# Altium schematic symbol library WREL_AD10.SchLib: 31 symbols
Pins are listed as number, name and electrical type; pins without a type are passive.

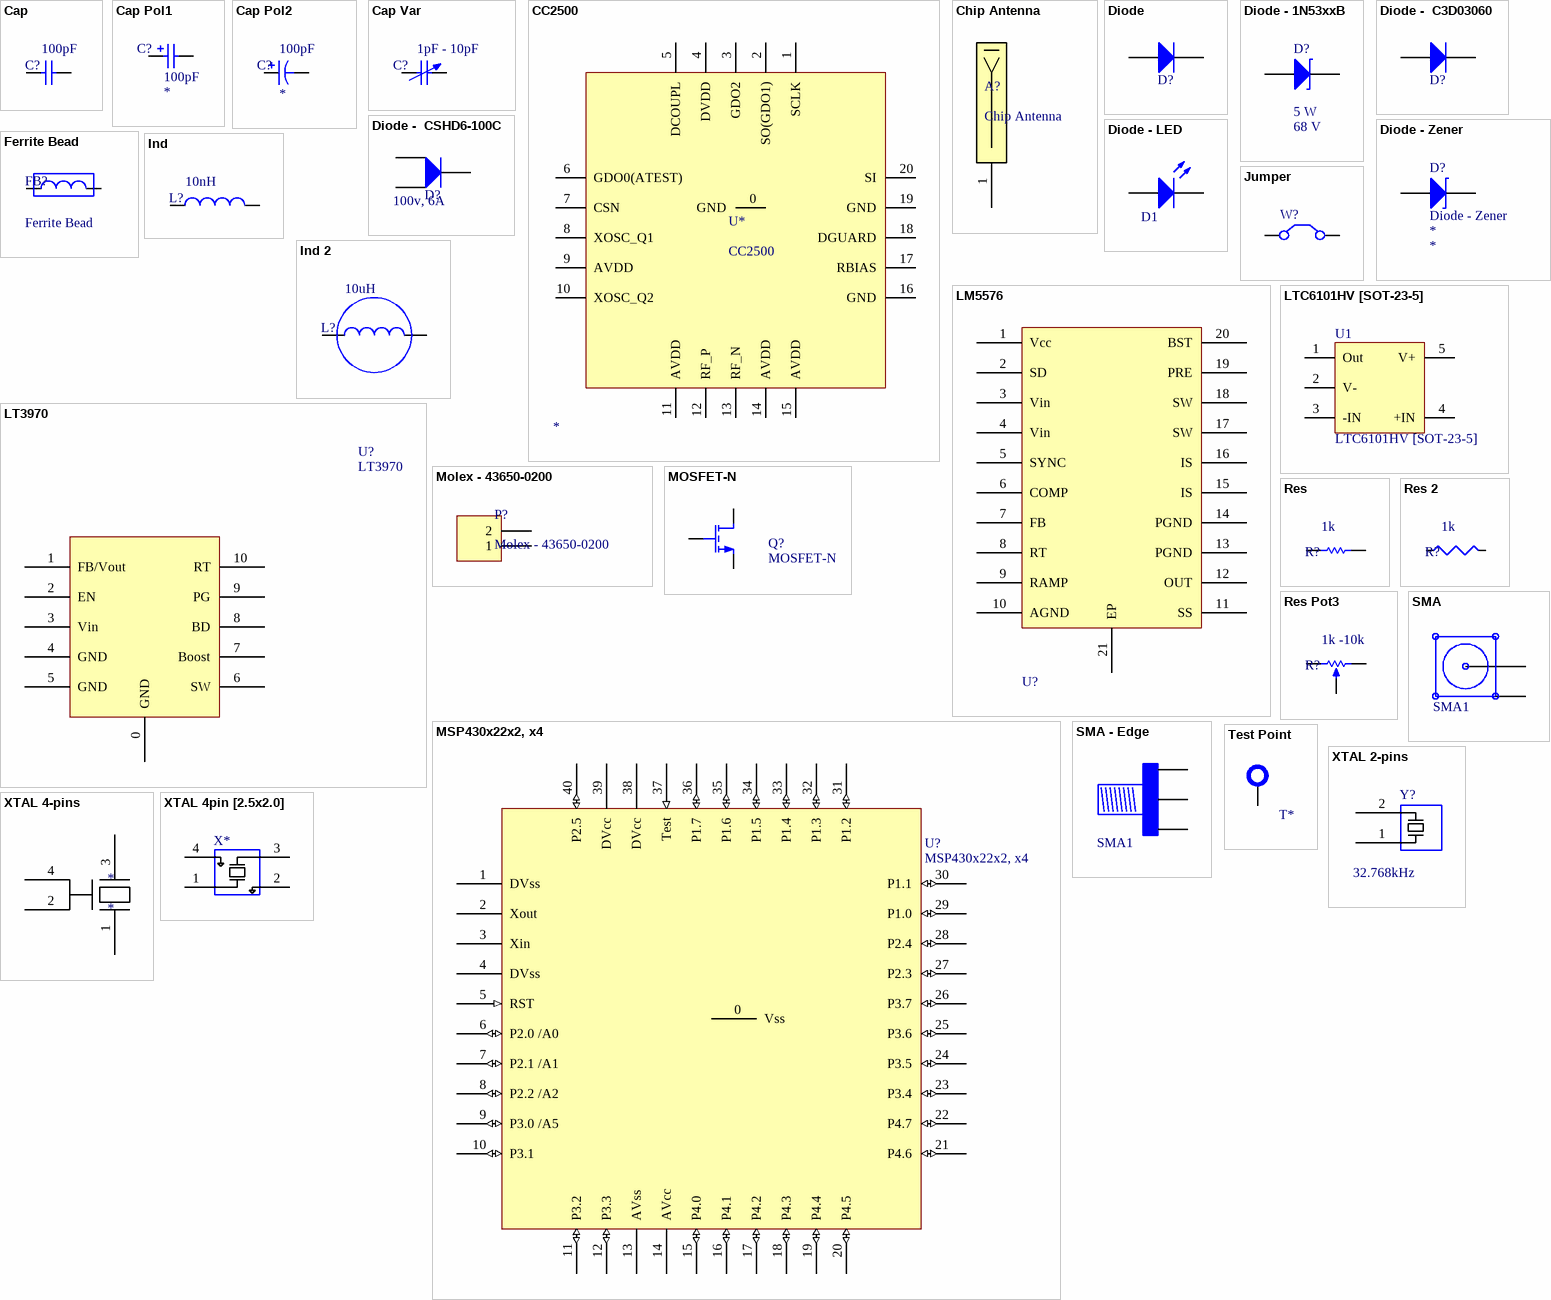
[diagram p0: symbols Cap to XTAL 4pin [2.5x2.0]]

## Cap
designator C?  value 100pF  (hidden comment: Cap)
Ceramic Capacitor (Surface Mount); Manufacturer: Generic Ceramic Chip Cap (TBD); Digi-Key Part Number: *; Manufacturer Part Number: *; Note: *; Rating: *
footprint 0402 (Surface Mount; Body 1 x 0.5 mm (LxW typ))
footprint 0402-W (Surface Mount - Wide; Body 1.0 x 0.5 mm (LxW typ))
footprint 0603 (Surface Mount; Body 1.6 x 0.8 mm (LxW typ))
footprint 0603-W (Surface Mount - Wide; Body 1.6 x 0.8 mm (LxW typ))
footprint 0805 (Surface Mount; Body 2.0 x 1.25 mm (LxW typ))
footprint 0805-W (Surface Mount - Wide; Body 2.0 x 1.25 mm (LxW typ))
footprint 1206 (Surface Mount; Body 3.2 x 1.6 mm (LxW typ))
footprint 1206-W (Surface Mount - Wide; Body 3.2 x 1.6 mm (LxW typ))
footprint 1210 (Surface Mount; Body 3.2 x 2.5 mm (LxW typ))
footprint 1210-W (Chip Capacitor; Body 3.2 x 2.5 mm (LxW typ))
pins: 1, 2

## Cap Pol1
designator C?  value 100pF  (hidden comment: Cap Pol1)
Polarized Capacitor; Manufacturer: *; Manufacturer Part Number: *; Digi-Key Part Number: *; Rating: *
footprint Capacitor - [10mm x 20mm](Side) (Electrolytic Capacitors, Radial Can on side [10mm x 20mm])
pins: 1, 2
1 alternate drawing of the same symbol

## Cap Pol2
designator C?  value 100pF  (hidden comment: Cap Pol2)
Polarized Capacitor (Radial); Digi-Key Part Number: *; Manufacturer Part Number: *; Manufacturer: *; Rating: *
footprint Capacitor - [8mm x 8mm] (Electrolytic Capacitors, Radial Can [8mm x 8mm])
pins: 1, 2
1 alternate drawing of the same symbol

## Cap Var
designator C?  value 1pF - 10pF  (hidden comment: Cap Var)
Variable or Adjustable Capacitor; Manufacturer: *; Manufacturer Part Number: *; Digi-Key Part Number: *; Rating: *
pins: 1, 2

## CC2500
designator U*
2.4 GHz RF Transceiver, Low-Cost Low-Power; Manufacturer Part Number: CC2500RTKR; Manufacturer: Texas Instruments; Digi-Key Part Number: 296-19586-1-ND; Notes: *
footprint 20-QFN (20 pin QFN as per CC2500 datasheet)
footprint 20-QFN - Solder Mask  Mode (20 pin QFN as per CC2500 datasheet)
pins: 0 GND, 1 SCLK, 2 SO(GDO1), 3 GDO2, 4 DVDD, 5 DCOUPL, 6 GDO0(ATEST), 7 CSN, 8 XOSC_Q1, 9 AVDD, 10 XOSC_Q2, 11 AVDD, 12 RF_P, 13 RF_N, 14 AVDD, 15 AVDD, 16 GND, 17 RBIAS, 18 DGUARD, 19 GND, 20 SI

## Chip Antenna
designator A?
ANTENNA MULTILAYER 2.4-2.5GHZ; Manufacturer: Wurth Electronics Inc; Manufacturer Part Number: 7488910245; Digi-Key Part Number: 732-1838-1-ND
footprint Chip Antenna 9.5mm x 2mm
pins: 1, 2

## Diode
designator D?  (value not drawn)
General Purpose Diode; Manufacturer: *; Manufacturer Part Number: *; Digi-Key Part Number: *; Value: *; Rating: *; Note: *
footprint Diode - SOD128 (Diode: Body 1.6 x 0.8 mm (LxW typ))
footprint DIODE - SOD123 (SOD-123; 2 Leads; Body 2.7 x 1.6 mm, (LxW))
pins: 1 A, 2 C

## Diode - 1N53xxB
designator D?  value 5 W  Rating: 68 V  (hidden comment: Diode - 1N53xxB)
Diode - Zener; Manufacturer Part Number: 1N5373BG (68v, many option); Manufacturer: ON Semiconductor; Digi-Key Part Number: 1N5373BGOS-ND (68v, many option); Note: *
footprint T-18 (Through Hole,  ON Semiconductor 1N53xxB, CASE 017AA-01)
footprint T-18 - Long (Through Hole,  ON Semiconductor 1N53xxB, CASE 017AA-01)
pins: 1 A, 2 K

## Diode -  C3D03060
designator D?  (value not drawn)
High Power Rectifier; Manufacturer: Cree Inc; Manufacturer Part Number: C3D03060E; Digi-Key Part Number: C3D03060E-ND; Value: *; Rating: *; Note: *
footprint Diode - C3D03060 (TO-252-2 (Case connected to Pin 1))
pins: 1 Cathode, 2 Anode

## Diode -  CSHD6-100C
designator D?  Rating: 100v, 6A  (hidden comment: Diode -  CSHD6-100C)
Switching Power Diode; Manufacturer: Central Semiconductor; Manufacturer Part Number: CSHD6-100C; Digi-Key Part Number: Mouser Part #:  610-CSHD6-100C; Value: *; Note: *
footprint Diode - CSHD6-100C (D-Pak (Similar to TO-252AA))
pins: 1 Anode_1, 3 Anode_2, 4 Cathode

## Diode - LED
designator D1, comment LED  (value not drawn)
Typical RED, GREEN, YELLOW, AMBER GaAs LED; Digi-Key Part Number: *; Manufacturer: *; Manufacturer Part Number: *; Note: *; Value: *; Rating: *
footprint Diode - 0603 (Diode: Body 1.6 x 0.8 mm (LxW typ))
pins: 1 A, 2 K

## Diode - Zener
designator D?
Manufacturer Part Number: *; Manufacturer: *; Digi-Key Part Number: *; Note: *; Value: *; Rating: *
pins: 1 A, 2 K

## Ferrite Bead
designator FB?
Ferrite bead, RF choke; Manufacturer: example: Taiyo Yuden; Manufacturer Part Number: example: BK1608HS330-T; Digi-Key Part Number: example: 587-1871-1-ND; Rating: *; Note: *; Value: *
footprint 0402 (Surface Mount; Body 1 x 0.5 mm (LxW typ))
footprint 0402-W (Surface Mount - Wide; Body 1.0 x 0.5 mm (LxW typ))
footprint 0603 (Surface Mount; Body 1.6 x 0.8 mm (LxW typ))
footprint 0603-W (Surface Mount - Wide; Body 1.6 x 0.8 mm (LxW typ))
footprint 0805 (Surface Mount; Body 2.0 x 1.25 mm (LxW typ))
footprint 0805-W (Surface Mount - Wide; Body 2.0 x 1.25 mm (LxW typ))
footprint 1206 (Surface Mount; Body 3.2 x 1.6 mm (LxW typ))
footprint 1206-W (Surface Mount - Wide; Body 3.2 x 1.6 mm (LxW typ))
pins: 1, 2

## Ind
designator L?  value 10nH  (hidden comment: Ind)
Inductor (Surface Mount); Digi-Key Part Number: *; Manufacturer: *; Manufacturer Part Number: *; Rating: *; Note: *
footprint 0402 (Surface Mount; Body 1 x 0.5 mm (LxW typ))
footprint 0402-W (Surface Mount - Wide; Body 1.0 x 0.5 mm (LxW typ))
footprint 0603 (Surface Mount; Body 1.6 x 0.8 mm (LxW typ))
footprint 0603-W (Surface Mount - Wide; Body 1.6 x 0.8 mm (LxW typ))
footprint 0805 (Surface Mount; Body 2.0 x 1.25 mm (LxW typ))
footprint 0805-W (Surface Mount - Wide; Body 2.0 x 1.25 mm (LxW typ))
footprint 1206 (Surface Mount; Body 3.2 x 1.6 mm (LxW typ))
footprint 1206-W (Surface Mount - Wide; Body 3.2 x 1.6 mm (LxW typ))
footprint 1210 (Surface Mount; Body 3.2 x 2.5 mm (LxW typ))
footprint 1210-W (Chip Capacitor; Body 3.2 x 2.5 mm (LxW typ))
pins: 1, 2

## Ind 2
designator L?  value 10uH  (hidden comment: Ind 2)
Power Inductor; Digi-Key Part Number: *; Manufacturer: *; Manufacturer Part Number: *; Rating: *; Note: *
footprint Inductor - [3mm x 3mm] (Surface mount power inductor (3mm x 3mm))
footprint Inductor - [12.3mm x 12.3mm] (Surface mount power inductor (12.3 x 12.3))
pins: 1, 2

## Jumper
designator W?
Jumper Wire; Published: 24-Mar-1999; LatestRevisionDate: 17-Jul-2002; LatestRevisionNote: Re-released for DXP Platform.; PackageReference: RAD-0.2; Publisher: Altium Limited; PackageDescription: Radial Cap, Thru-Hole; 2 Leads; 0.2 in Pin Spacing
footprint RAD-0.2 (Radial Cap, Thru-Hole; 2 Leads; 0.2 in Pin Spacing)
pins: 1 C1, 2 C2

## LM5576
designator U?, comment PMIC - Buck Converter  (value not drawn)
IC BUCK SYNC ADJ 3A 20TSSOP -Epad, 75v - 3A; Manufacturer Part Number: LM5576MH; Manufacturer: National Semiconductor; Digi-Key Part Number: LM5576MH-ND; Note: *
footprint LM5576 (75V 3A Step-Down Switching Regualtor)
pins: 1 Vcc, 2 SD, 3 Vin, 4 Vin, 5 SYNC, 6 COMP, 7 FB, 8 RT, 9 RAMP, 10 AGND, 11 SS, 12 OUT, 13 PGND, 14 PGND, 15 IS, 16 IS, 17 SW, 18 SW, 19 PRE, 20 BST, 21 EP

## LT3970
designator U?
DFN-10, Buck converter - 350mA; Manufacturer: Linear Technology; Manufacturer Part Number: LT3970EDDB-3.3#TRMPBF; Note: *; Digi-Key Part Number: LT3970EDDB-3.3#TRMPBFCT-ND
footprint LT3970 (DFN-10, (3mmx2mm))
pins: 0 GND, 1 FB/Vout, 2 EN, 3 Vin, 4 GND, 5 GND, 6 SW, 7 Boost, 8 BD, 9 PG, 10 RT

## LTC6101HV [SOT-23-5]
designator U1
High-Side Current Sense Amplifier (High Voltage); Manufacturer Part Number: LTC6101HVACS5; Manufacturer: Linear Technology; Digi-Key Part Number: LTC6101HVACS5#TRMPBFCT-ND; Note: *
footprint SOT23-5
pins: 1 Out, 2 V-, 3 -IN, 4 +IN, 5 V+

## Molex - 43650-0200
designator P?
2 Position, Molex, Micro-Fit 3.0,  [43650-0200]; Manufacturer: Molex Connector Corporation; Manufacturer Part Number: 43650-0201; Note: Mating Part: DK#: WM1845-ND, MP#: 43645-0200; Digi-Key Part Number: WM1865-ND; Rating: *
footprint Molex - 43650-0200 (2 Position, Molex, Micro-Fit 3.0,  [43650-0200])
pins: 1, 2

## MOSFET-N
designator Q?
N-Channel MOSFET; Digi-Key Part Number: *; Manufacturer Part Number: *; Manufacturer: *; Notes: *; Rating: *
footprint SOT23 - N (SOT23, 3-Leads, Body 2.9x1.3mm, Pitch 0.95mm, Lead Span 2.3mm - Reverse Pinning, IPC Medium Density)
pins: 1 G, 2 S, 3 D

## MSP430x22x2, x4
designator U?
40QFN - MSP430x22x2, x4; Manufacturer: Texas Instruments; Manufacturer Part Number: MSP430F2272IRHAT (several variants); Note: *; Digi-Key Part Number: 296-21441-1-ND (several variants)
footprint 40-QFN (40-QFN, for MSP430x22x2, x4)
pins: 0 Vss (power) "Output", 1 DVss (power) "Output", 2 Xout "Output", 3 Xin "Output", 4 DVss (power) "Output", 5 RST (in), 6 P2.0 /A0 (io), 7 P2.1 /A1 (io), 8 P2.2 /A2 (io), 9 P3.0 /A5 (io), 10 P3.1 (io), 11 P3.2 (io), 12 P3.3 (io), 13 AVss (power), 14 AVcc (power), 15 P4.0 (io), 16 P4.1 (io), 17 P4.2 (io), 18 P4.3  (io), 19 P4.4 (io), 20 P4.5 (io), 21 P4.6 (io), 22 P4.7 (io), 23 P3.4 (io), 24 P3.5 (io), 25 P3.6 (io), 26 P3.7 (io), 27 P2.3 (io), 28 P2.4 (io), 29 P1.0 (io), 30 P1.1 (io), 31 P1.2 (io), 32 P1.3 (io), 33 P1.4 (io), 34 P1.5 (io), 35 P1.6 (io), 36 P1.7 (io), 37 Test (in), 38 DVcc (power), 39 DVcc (power), 40 P2.5 (io)

## Res
designator R?  value 1k  (hidden comment: Res)
Chip Resistor (Surface Mount); Manufacturer: Generic Chip Res (TBD); Manufacturer Part Number: *; Digi-Key Part Number: *; Rating: *; Note: *
footprint 0402 (Surface Mount; Body 1 x 0.5 mm (LxW typ))
footprint 0402-W (Surface Mount - Wide; Body 1.0 x 0.5 mm (LxW typ))
footprint 0603 (Surface Mount; Body 1.6 x 0.8 mm (LxW typ))
footprint 0603-W (Surface Mount - Wide; Body 1.6 x 0.8 mm (LxW typ))
footprint 0805 (Surface Mount; Body 2.0 x 1.25 mm (LxW typ))
footprint 0805-W (Surface Mount - Wide; Body 2.0 x 1.25 mm (LxW typ))
footprint 1206 (Surface Mount; Body 3.2 x 1.6 mm (LxW typ))
footprint 1206-W (Surface Mount - Wide; Body 3.2 x 1.6 mm (LxW typ))
footprint 1210 (Surface Mount; Body 3.2 x 2.5 mm (LxW typ))
footprint 1210-W (Chip Capacitor; Body 3.2 x 2.5 mm (LxW typ))
pins: 1, 2

## Res 2
designator R?  value 1k  (hidden comment: Res 2)
Resistor (other); Manufacturer: *; Manufacturer Part Number: *; Digi-Key Part Number: *; Rating: *
pins: 1, 2

## Res Pot3
designator R?, comment value 1k -10k  (hidden comment: Pot)
Potentiometer 3 Terminal; Manufacturer: *; Manufacturer Part Number: *; Digi-Key Part Number: *; Rating: *
pins: 1 TOP, 2 BOT, 3 TAP

## SMA
designator SMA1  (value not drawn)
SMA - Through Hole Connector; Manufacturer Part Number: *; Manufacturer: *; Digi-Key Part Number: *; Note: *
footprint SMA (SMA Through Hole Connector)
pins: 1, 2

## SMA - Edge
designator SMA1
SMA - Board Edge Connector; Note: *; Digi-Key Part Number: *; Manufacturer Part Number: *; Manufacturer: *
footprint SMA - Edge - Wide (SMA - Board Edge Connector, Wide Body = .375in, no gnd pad)
footprint SMA - Edge - Narrow (SMA - Board Edge Connector, Narrow body = 0.25in)
pins: 1, 1, 2

## Test Point
designator T*  (value not drawn)
Test Point, large or small foot prints; Manufacturer Part Number: Example: 5000, 5013; Manufacturer: Keystone Electronics; Digi-key: Example: 5000K-ND, 5012K-ND; Note: *; Rating: *; Value: *
footprint Test Point - Small (Test Point, 40mil hole, example DK: 5000K-ND)
footprint Test Point - Large (Test Point, 63mil hole, example DK: 5012K-ND)
pins: 0

## XTAL 2-pins
designator Y?, comment value 32.768kHz  (hidden comment: XTAL)
Crystal Oscillator - [3.20mm x 1.50mm]; Manufacturer: Epson Toyocom Corporation; Manufacturer Part Number: FC-135 32.7680KA-A3; Digi-Key Part Number: example: SE2413CT-ND
footprint FC-135 (FC-135   crystal - epson eletronics)
pins: 1 (power) "Output", 2 (power) "Output"

## XTAL 4-pins
designator *
Crystal Oscillator
pins: 1, 2, 3, 4

## XTAL 4pin [2.5x2.0]
designator X*  (value not drawn)
4-Pin Surface Mount; Manufacturer Part Number: NX2520SA-26.000000MHZ-B9; Manufacturer: NDK; Digi-Key Part Number: 644-1095-1-ND; Note: NX2520SA-26.000000MHZ-B9; Rating: *; Value: *
footprint XTAL 2.5mm x 2.0mm (CRYSTAL, 2.5mm x 2.0mm,  4Pin)
pins: 1 XIN, 2 Gnd, 3 XOUT, 4 Gnd